# EAGLE library part TPS203X (library satellite)
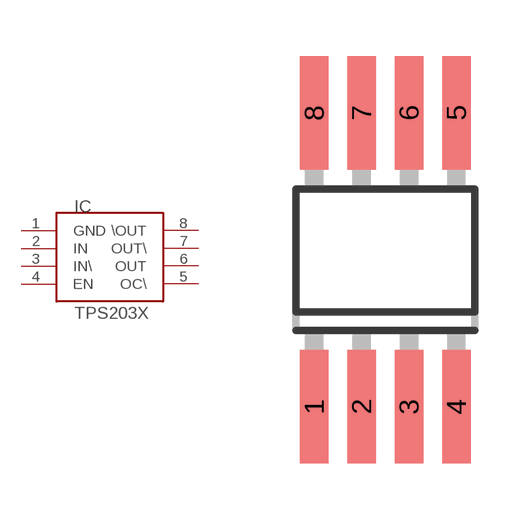
[diagram p1: symbol with the pads of SO-8; footprint SO-8]

Designator prefix IC

## TPS203X  [SO-8]
1  GND  pwr
2  IN  pwr
3  IN\  pwr
4  EN
5  OC\
6  OUT  pwr
7  OUT\  pwr
8  \OUT  pwr

## Footprint SO-8 (pad centres in mm)
smd 0.762 x 3.048: 1 -1.905,-3.937; 2 -0.635,-3.937; 3 0.635,-3.937; 4 1.905,-3.937; 5 1.905,3.937; 6 0.635,3.937; 7 -0.635,3.937; 8 -1.905,3.937